# EAGLE library part 7490100?A (library wurth_elektronik)
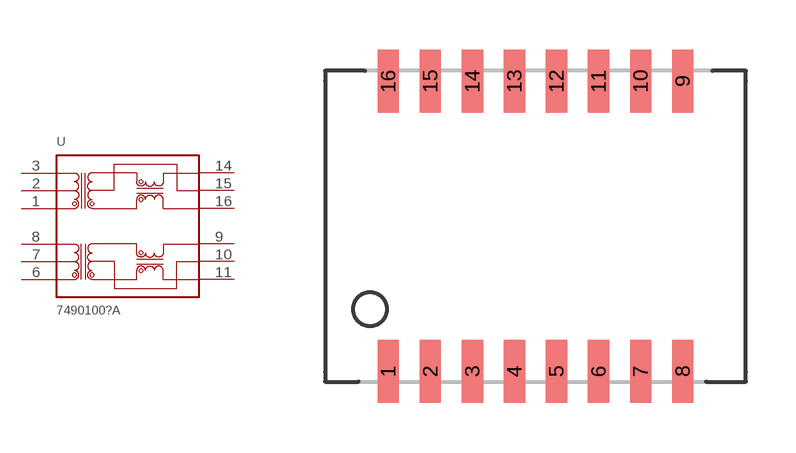
[diagram p0: symbol with the pads of 7490100; footprint 7490100]

Designator prefix -

## 7490100111A  [7490100]
1  RDIM
2  RXCTI
3  RDIP
6  TDIM
7  TXCTI
8  TDIP
9  TDOP
10  TXCTO
11  TDOM
14  RXOP
15  RXCTO
16  RDOM

## Footprint 7490100 (pad centres in mm)
smd 0.64 x 1.91: 1 -4.445,-4.385; 2 -3.175,-4.385; 3 -1.905,-4.385; 4 -0.635,-4.385; 5 0.635,-4.385; 6 1.905,-4.385; 7 3.175,-4.385; 8 4.445,-4.385; 9 4.445,4.385; 10 3.175,4.385; 11 1.905,4.385; 12 0.635,4.385; 13 -0.635,4.385; 14 -1.905,4.385; 15 -3.175,4.385; 16 -4.445,4.385